# Altium schematic symbol library Resistors.SchLib: 9 symbols
Pins are listed as number, name and electrical type; pins without a type are passive.

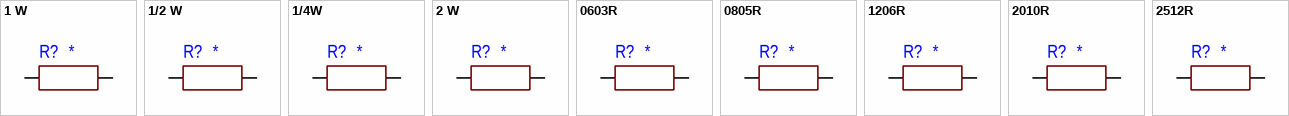
[diagram p0: symbols 1 W to 2512R]

## 1 W
designator R?
Manufacturer: *; Value: *
footprint 1 W
pins: 1, 2

## 1/2 W
designator R?
Manufacturer: *; Value: *
footprint 1/2 W
pins: 1, 2

## 1/4W
designator R?
Manufacturer: *; Value: *
footprint 1/4 W
pins: 1, 2

## 2 W
designator R?
Manufacturer: *; Value: *
footprint 2 W
pins: 1, 2

## 0603R
designator R?
Manufacturer: *; Value: *
footprint 0603R
pins: 1, 2

## 0805R
designator R?
Manufacturer: *; Value: *
footprint 0805R
pins: 1, 2

## 1206R
designator R?
Manufacturer: *; Value: *
footprint 1206R
pins: 1, 2

## 2010R
designator R?
Manufacturer: *; Value: *
footprint 2010R
pins: 1, 2

## 2512R
designator R?
Manufacturer: *; Value: *
footprint 2512R
pins: 1, 2